# Altium footprint library PCB库.PcbLib: 16 footprints
Each footprint in its own frame and in the unit in brackets; x right, y up, seen from the top. Pads: shape width x height; smd on the part's side, far side on the other; paste and mask are expansions set on the pad; w line width, h text height; cw(c..) or ccw(c..) is an arc to the next point about the centre after c.
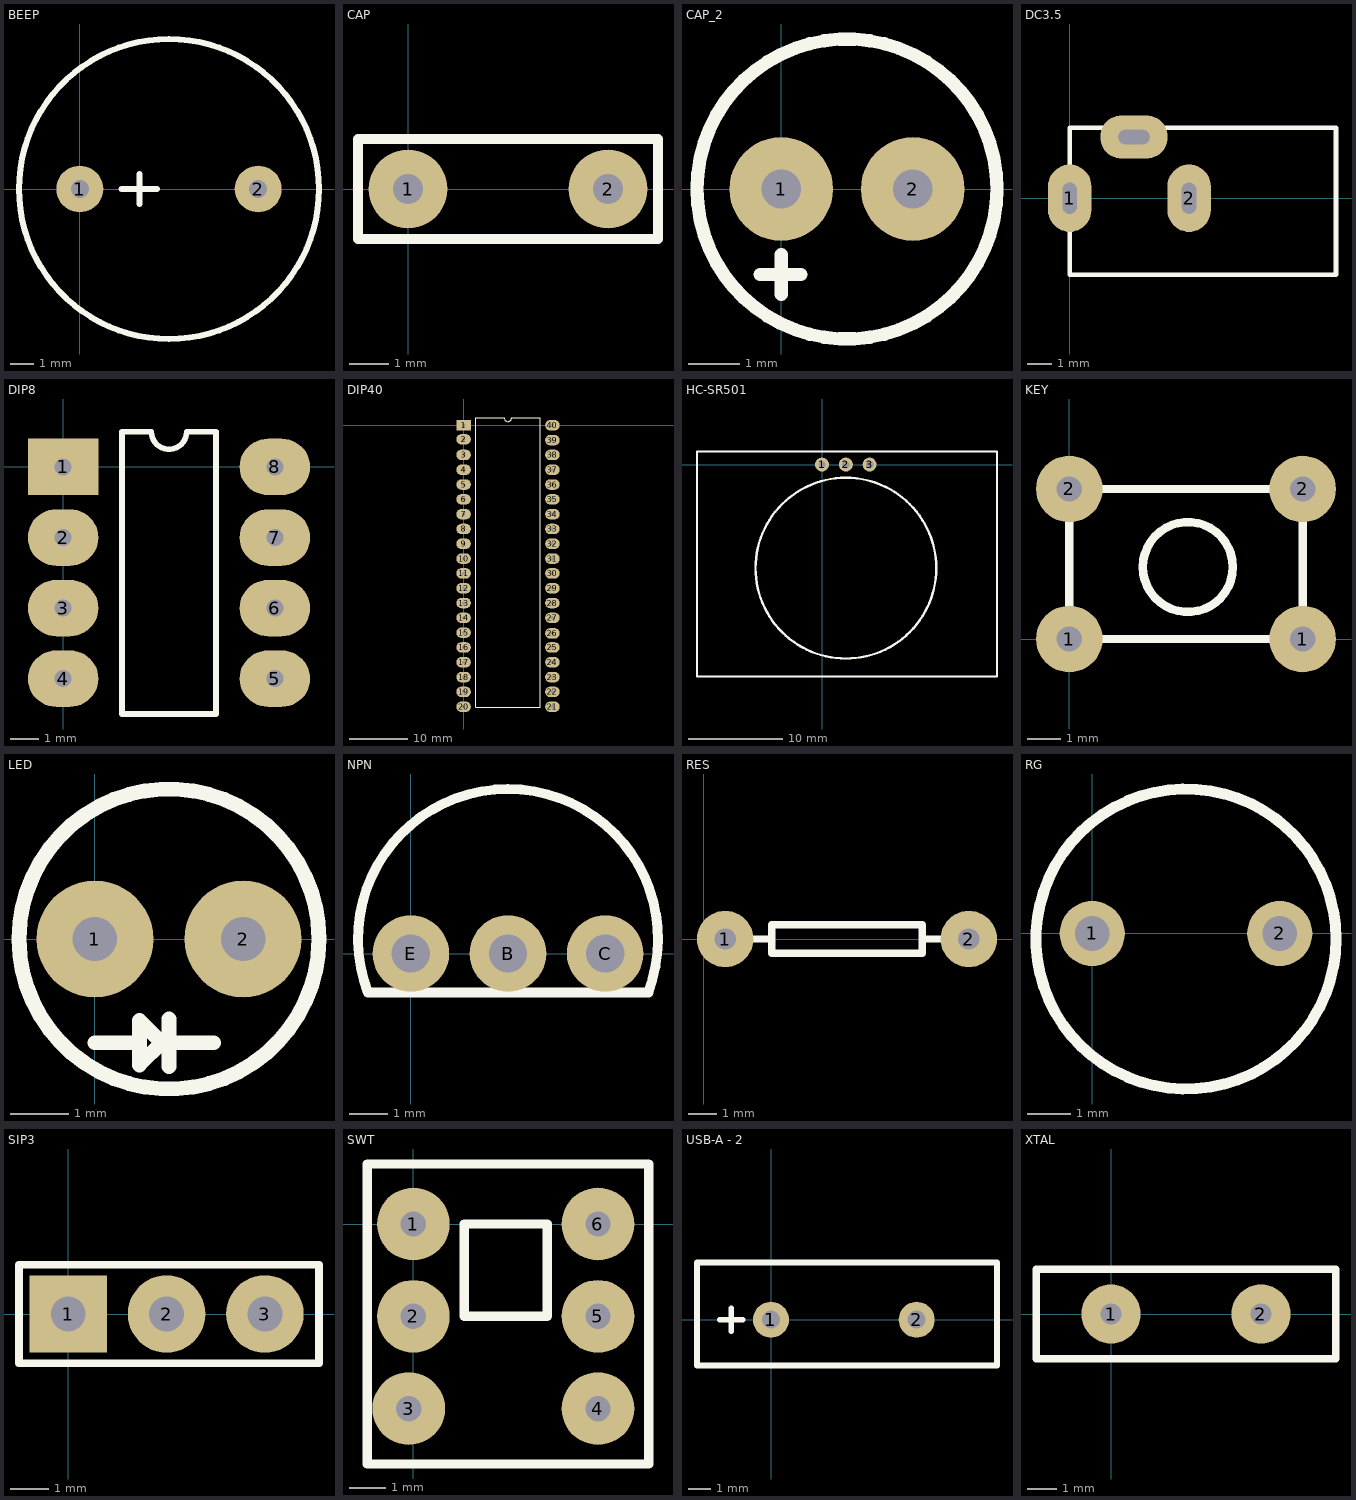
[diagram p0: the footprints below, top view; thin cyan lines are the x and y axes]

## BEEP [mm]
pads (2):
  round 2 hole 0.762: 1(0,0) 2(7.62,0)
Top Overlay:
  circle w0.254: c3.81,0 r6.411
  lines w0.254: 1.778,0 3.302,0 ; 2.54,-0.635 2.54,0.635

## CAP [mm]
pads (2):
  round 2 hole 0.762: 1(0,0) 2(5.08,0)
Top Overlay:
  lines w0.254: -1.27,-1.27 6.35,-1.27 6.35,1.27 -1.27,1.27 -1.27,-1.27

## CAP_2 [mm]
pads (2):
  round 2 hole 0.762: 1(0,0) 2(2.54,0)
Top Overlay:
  circle w0.254: c1.27,0 r2.896
  lines w0.254: -0.408,-1.651 0.381,-1.651 ; 0,-2.032 0,-1.27

## DC3.5 [mm]
pads (3):
  oval 1.8x2.8 hole 0.6 slot 1.3 at 90 deg: 1(0,0) 2(4.953,0)
  oval 2.8x1.8 hole 0.6 slot 1.3 at 0 deg: ""(2.667,2.54)
Top Overlay:
  lines w0.2: 0,-3.175 11.049,-3.175 11.049,2.921 0,2.921 0,-3.175

## DIP8 [mm]
pads (8):
  rect 2.5x2 hole 0.6: 1(0,0)
  oval 2.5x2 hole 0.6: 2(0,-2.5) 3(0,-5) 4(0,-7.5) 5(7.5,-7.5) 6(7.5,-5) 7(7.5,-2.5) 8(7.5,0)
Top Overlay:
  lines w0.2: 2.085,-8.75 2.085,1.25 3.125,1.25 ccw(c3.75,1.25) 4.375,1.25 5.415,1.25 5.415,-8.75 2.085,-8.75

## DIP40 [mm]
pads (40):
  rect 2.5x1.8 / inner rect 2.5x1.2 / far side rect 2.5x1.8 hole 0.6: 1(0,0)
  oval 2.5x1.8 / inner oval 2.5x1.2 / far side oval 2.5x1.8 hole 0.6: 2(0,-2.413) 3(0,-5.08) 4(0,-7.62) 5(0,-10.16) 6(0,-12.7) 7(0,-15.24) 8(0,-17.78) 9(0,-20.32) 10(0,-22.86) 11(0,-25.4) 12(0,-27.94) 13(0,-30.48) 14(0,-33.02) 15(0,-35.56) 16(0,-38.1) 17(0,-40.64) 18(0,-43.18) 19(0,-45.72) 20(0,-48.26) 21(15.24,-48.26) 22(15.24,-45.72) 23(15.24,-43.18) 24(15.24,-40.64) 25(15.24,-38.1) 26(15.24,-35.687) 27(15.24,-33.02) 28(15.24,-30.48) 29(15.24,-27.94) 30(15.24,-25.4) 31(15.24,-22.86) 32(15.24,-20.32) 33(15.24,-17.78) 34(15.24,-15.24) 35(15.24,-12.7) 36(15.24,-10.16) 37(15.24,-7.62) 38(15.24,-5.08) 39(15.24,-2.54) 40(15.24,0)
Top Overlay:
  lines w0.2: 2.085,-48.387 13.115,-48.387 13.115,1.29 8.245,1.29 cw(c7.6,1.29) 6.955,1.29 2.085,1.29 2.085,-48.387

## HC-SR501 [mm]
pads (3):
  round 1.5 hole 0.8: 1(0,0) 2(2.54,0) 3(5.08,0)
Top Overlay:
  circle w0.254: c2.549,-11.049 r9.643
  lines w0.254: -13.335,-22.606 18.665,-22.606 ; -13.335,-22.603 -13.335,1.397 18.665,1.397 ; 18.669,-22.603 18.669,1.397

## KEY [mm]
pads (4):
  round 2 hole 0.762: 1(0,0) 1(7,0) 2(0,4.5) 2(7,4.5)
Top Overlay:
  circle w0.254: c3.556,2.159 r1.35
  lines w0.254: 0,0 0,4.5 7,4.5 7,0 0,0

## LED [mm]
pads (2):
  round 2 hole 0.762: 1(0,0) 2(2.54,0)
Top Overlay:
  circle w0.254: c1.27,0 r2.572
  lines w0.254: 0,-1.778 0.762,-1.778 ; 1.27,-2.186 1.27,-1.37 ; 1.27,-1.778 2.032,-1.778 ; 0.762,-2.159 1.143,-1.778 0.762,-1.397 0.762,-2.159

## NPN [mm]
pads (3):
  round 2 hole 1: B(2.54,0) C(5.08,0) E(0,0)
Top Overlay:
  lines w0.254: 6.206,-1.009 ccw(c2.54,0.381) -1.124,-1.015 6.222,-1.015

## RES [mm]
pads (2):
  round 2 hole 0.762: 1(0.762,0) 2(9.398,0)
Top Overlay:
  lines w0.254: 0.762,0 2.413,0 ; 7.747,0 9.398,0 ; 2.413,-0.508 2.413,0.508 7.747,0.508 7.747,-0.508 2.413,-0.508

## RG [mm]
pads (2):
  round 1.5 hole 0.8: 1(0,0) 2(4.318,0)
Top Overlay:
  circle w0.254: c2.159,-0.127 r3.455

## SIP3 [mm]
pads (3):
  rect 2x2 hole 0.9: 1(0,0)
  round 2 hole 0.9: 2(2.54,0) 3(5.08,0)
Top Overlay:
  lines w0.2: -1.27,-1.27 -1.27,1.27 6.477,1.27 6.477,-1.27 -1.27,-1.27

## SWT [mm]
pads (6):
  round 2 hole 0.7: 1(0,0) 2(0,-2.54) 3(-0.127,-5.08) 4(5.08,-5.08) 5(5.08,-2.54) 6(5.08,0)
Top Overlay:
  lines w0.254: -1.27,-6.604 -1.27,1.651 6.477,1.651 6.477,-6.604 -1.27,-6.604 ; 1.397,-2.54 1.397,0 3.683,0 3.683,-2.54 1.397,-2.54

## USB-A - 2 [mm]
pads (2):
  round 1.6 hole 0.8: 1(-0.015,0) 2(6.462,0)
Top Overlay:
  lines w0.254: -3.302,2.515 -3.302,-2.032 10.033,-2.032 10.033,2.515 ; -3.302,2.54 10.033,2.54 ; -2.286,0 -1.27,0 ; -1.778,-0.508 -1.778,0.508

## XTAL [mm]
pads (2):
  round 2 hole 0.7: 1(0,0) 2(5.08,0)
Top Overlay:
  lines w0.254: -2.54,-1.524 7.62,-1.524 7.62,1.524 -2.54,1.524 -2.54,-1.524